# Altium footprint library 通用接插件.PcbLib: 40 footprints (part 1 of 3)
Each footprint in its own frame and in the unit in brackets; x right, y up, seen from the top. Pads: shape width x height; smd on the part's side, far side on the other; paste and mask are expansions set on the pad; w line width, h text height; cw(c..) or ccw(c..) is an arc to the next point about the centre after c.
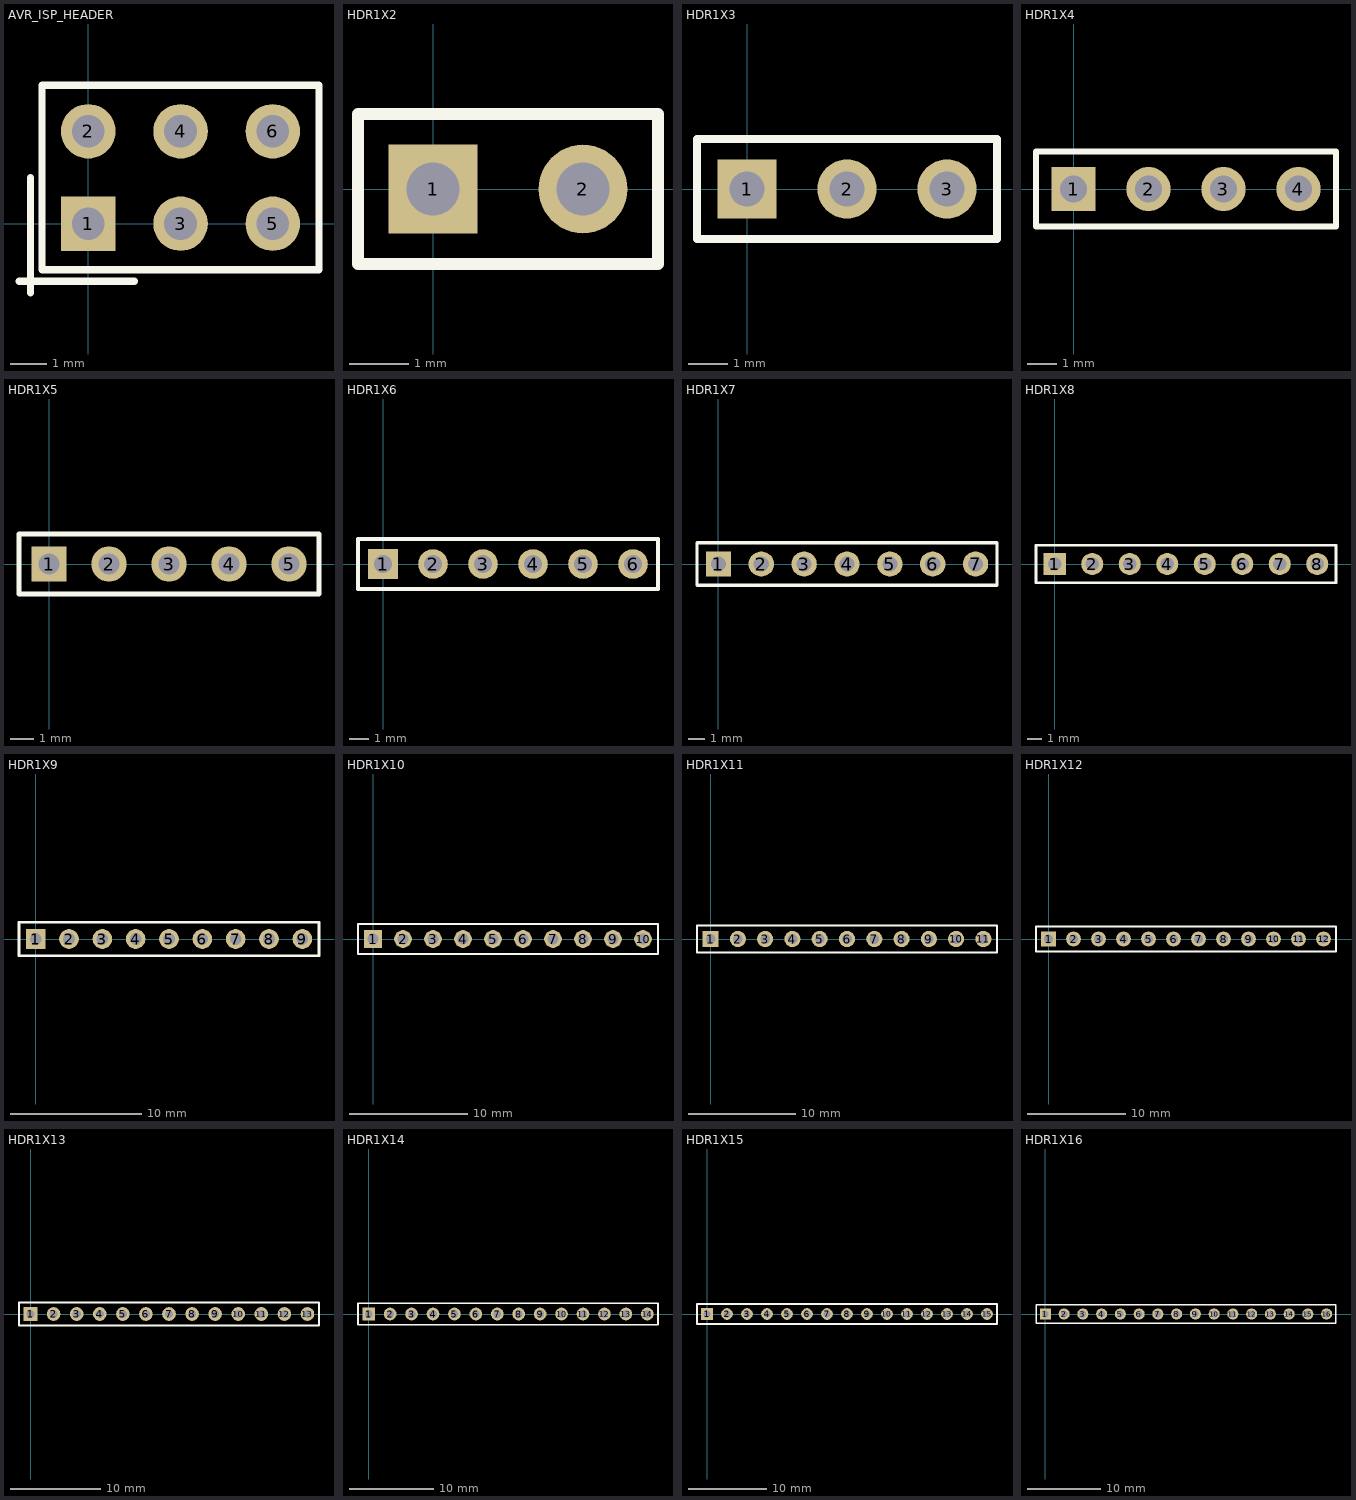
[diagram p0: the footprints below, top view; thin cyan lines are the x and y axes]

## AVR_ISP_HEADER [mm]
pads (6):
  rect 1.5x1.5 hole 0.9: 1(0,0)
  round 1.5 hole 0.9: 2(0,2.54) 3(2.54,0) 4(2.54,2.54) 5(5.08,0) 6(5.08,2.54)
Top Overlay:
  lines w0.2: 1.482,-1.27 6.35,-1.27 ; 6.35,-1.27 -1.27,-1.27 -1.27,3.81 6.35,3.81 6.35,-1.27
  lines w0.203: -1.905,-1.587 1.27,-1.587 ; -1.587,-1.905 -1.587,1.27
3D body: height 7.58, standoff -2.94, extent -1.27,1.27 1.27,3.81
3D body: height 7.58, standoff -2.94, extent 1.27,1.27 3.81,3.81
3D body: height 7.58, standoff -2.94, extent 3.81,1.27 6.35,3.81
3D body: height 7.58, standoff -2.94, extent 3.81,-1.27 6.35,1.27
3D body: height 7.58, standoff -2.94, extent 1.27,-1.27 3.81,1.27
3D body: height 7.58, standoff -2.94, extent -1.27,-1.27 1.27,1.27

## HDR1X2 [mm] "Connector; Header; 2 Position"
pads (2):
  rect 1.5x1.5 hole 0.9: 1(0,0)
  round 1.5 hole 0.9: 2(2.54,0)
Top Overlay:
  lines w0.2: -1.27,-1.27 3.81,-1.27 3.81,1.27 -1.27,1.27 -1.27,-1.27
3D body: height 7.58, standoff -2.94, extent -1.27,-1.27 1.27,1.27
3D body: height 7.58, standoff -2.94, extent 1.27,-1.27 3.81,1.27

## HDR1X3 [mm] "Connector; Header; 3 Position"
pads (3):
  rect 1.5x1.5 hole 0.9: 1(0,0)
  round 1.5 hole 0.9: 2(2.54,0) 3(5.08,0)
Top Overlay:
  lines w0.2: -1.27,-1.27 -1.27,1.27 6.35,1.27 6.35,-1.27 -1.27,-1.27
3D body: height 7.58, standoff -2.94, extent -1.27,-1.27 1.27,1.27
3D body: height 7.58, standoff -2.94, extent 1.27,-1.27 3.81,1.27
3D body: height 7.58, standoff -2.94, extent 3.81,-1.27 6.35,1.27

## HDR1X4 [mm] "Connector; Header; 4 Position"
pads (4):
  rect 1.5x1.5 hole 0.9: 1(0,0)
  round 1.5 hole 0.9: 2(2.54,0) 3(5.08,0) 4(7.62,0)
Top Overlay:
  lines w0.2: -1.27,-1.27 -1.27,1.27 8.89,1.27 8.89,-1.27 -1.27,-1.27
3D body: height 7.58, standoff -2.94, extent -1.27,-1.27 1.27,1.27
3D body: height 7.58, standoff -2.94, extent 1.27,-1.27 3.81,1.27
3D body: height 7.58, standoff -2.94, extent 3.81,-1.27 6.35,1.27
3D body: height 7.58, standoff -2.94, extent 6.35,-1.27 8.89,1.27

## HDR1X5 [mm] "Connector; Header; 5 Position"
pads (5):
  rect 1.5x1.5 hole 0.9: 1(0,0)
  round 1.5 hole 0.9: 2(2.54,0) 3(5.08,0) 4(7.62,0) 5(10.16,0)
Top Overlay:
  lines w0.2: -1.27,-1.27 -1.27,1.27 11.43,1.27 11.43,-1.27 -1.27,-1.27
3D body: height 7.58, standoff -2.94, extent -1.27,-1.27 1.27,1.27
3D body: height 7.58, standoff -2.94, extent 1.27,-1.27 3.81,1.27
3D body: height 7.58, standoff -2.94, extent 3.81,-1.27 6.35,1.27
3D body: height 7.58, standoff -2.94, extent 6.35,-1.27 8.89,1.27
3D body: height 7.58, standoff -2.94, extent 8.89,-1.27 11.43,1.27

## HDR1X6 [mm] "Connector; Header; 6 Position"
pads (6):
  rect 1.5x1.5 hole 0.9: 1(0,0)
  round 1.5 hole 0.9: 2(2.54,0) 3(5.08,0) 4(7.62,0) 5(10.16,0) 6(12.7,0)
Top Overlay:
  lines w0.2: -1.27,-1.27 13.97,-1.27 13.97,1.27 -1.27,1.27 -1.27,-1.27
3D body: height 7.58, standoff -2.94, extent -1.27,-1.27 1.27,1.27
3D body: height 7.58, standoff -2.94, extent 1.27,-1.27 3.81,1.27
3D body: height 7.58, standoff -2.94, extent 3.81,-1.27 6.35,1.27
3D body: height 7.58, standoff -2.94, extent 6.35,-1.27 8.89,1.27
3D body: height 7.58, standoff -2.94, extent 8.89,-1.27 11.43,1.27
3D body: height 7.58, standoff -2.94, extent 11.43,-1.27 13.97,1.27

## HDR1X7 [mm] "Connector; Header; 7 Position"
pads (7):
  rect 1.5x1.5 hole 0.9: 1(0,0)
  round 1.5 hole 0.9: 2(2.54,0) 3(5.08,0) 4(7.62,0) 5(10.16,0) 6(12.7,0) 7(15.24,0)
Top Overlay:
  lines w0.2: -1.27,-1.27 16.51,-1.27 16.51,1.27 -1.27,1.27 -1.27,-1.27
3D body: height 7.58, standoff -2.94, extent -1.27,-1.27 1.27,1.27
3D body: height 7.58, standoff -2.94, extent 1.27,-1.27 3.81,1.27
3D body: height 7.58, standoff -2.94, extent 3.81,-1.27 6.35,1.27
3D body: height 7.58, standoff -2.94, extent 6.35,-1.27 8.89,1.27
3D body: height 7.58, standoff -2.94, extent 8.89,-1.27 11.43,1.27
3D body: height 7.58, standoff -2.94, extent 11.43,-1.27 13.97,1.27
3D body: height 7.58, standoff -2.94, extent 13.97,-1.27 16.51,1.27

## HDR1X8 [mm] "Connector; Header; 8 Position"
pads (8):
  rect 1.5x1.5 hole 0.9: 1(0,0)
  round 1.5 hole 0.9: 2(2.54,0) 3(5.08,0) 4(7.62,0) 5(10.16,0) 6(12.7,0) 7(15.24,0) 8(17.78,0)
Top Overlay:
  lines w0.2: -1.27,-1.27 19.05,-1.27 19.05,1.27 -1.27,1.27 -1.27,-1.27
3D body: height 7.58, standoff -2.94, extent -1.27,-1.27 1.27,1.27
3D body: height 7.58, standoff -2.94, extent 1.27,-1.27 3.81,1.27
3D body: height 7.58, standoff -2.94, extent 3.81,-1.27 6.35,1.27
3D body: height 7.58, standoff -2.94, extent 6.35,-1.27 8.89,1.27
3D body: height 7.58, standoff -2.94, extent 8.89,-1.27 11.43,1.27
3D body: height 7.58, standoff -2.94, extent 11.43,-1.27 13.97,1.27
3D body: height 7.58, standoff -2.94, extent 13.97,-1.27 16.51,1.27
3D body: height 7.58, standoff -2.94, extent 16.51,-1.27 19.05,1.27

## HDR1X9 [mm] "Connector; Header; 9 Position"
pads (9):
  rect 1.5x1.5 hole 0.9: 1(0,0)
  round 1.5 hole 0.9: 2(2.54,0) 3(5.08,0) 4(7.62,0) 5(10.16,0) 6(12.7,0) 7(15.24,0) 8(17.78,0) 9(20.32,0)
Top Overlay:
  lines w0.2: -1.27,-1.27 21.59,-1.27 21.59,1.27 -1.27,1.27 -1.27,-1.27
3D body: height 7.58, standoff -2.94, extent 11.43,-1.27 13.97,1.27
3D body: height 7.58, standoff -2.94, extent 13.97,-1.27 16.51,1.27
3D body: height 7.58, standoff -2.94, extent 16.51,-1.27 19.05,1.27
3D body: height 7.58, standoff -2.94, extent 19.05,-1.27 21.59,1.27
3D body: height 7.58, standoff -2.94, extent 8.89,-1.27 11.43,1.27
3D body: height 7.58, standoff -2.94, extent 6.35,-1.27 8.89,1.27
3D body: height 7.58, standoff -2.94, extent 3.81,-1.27 6.35,1.27
3D body: height 7.58, standoff -2.94, extent 1.27,-1.27 3.81,1.27
3D body: height 7.58, standoff -2.94, extent -1.27,-1.27 1.27,1.27

## HDR1X10 [mm] "Connector; Header; 10 Position"
pads (10):
  rect 1.5x1.5 hole 0.9: 1(0,0)
  round 1.5 hole 0.9: 2(2.54,0) 3(5.08,0) 4(7.62,0) 5(10.16,0) 6(12.7,0) 7(15.24,0) 8(17.78,0) 9(20.32,0) 10(22.86,0)
Top Overlay:
  lines w0.2: -1.27,-1.27 24.13,-1.27 24.13,1.27 0.635,1.27 -1.27,1.27 -1.27,-1.27
3D body: height 7.58, standoff -2.94, extent 21.59,-1.27 24.13,1.27
3D body: height 7.58, standoff -2.94, extent 19.05,-1.27 21.59,1.27
3D body: height 7.58, standoff -2.94, extent 13.97,-1.27 16.51,1.27
3D body: height 7.58, standoff -2.94, extent 16.51,-1.27 19.05,1.27
3D body: height 7.58, standoff -2.94, extent 8.89,-1.27 11.43,1.27
3D body: height 7.58, standoff -2.94, extent 11.43,-1.27 13.97,1.27
3D body: height 7.58, standoff -2.94, extent 3.81,-1.27 6.35,1.27
3D body: height 7.58, standoff -2.94, extent 6.35,-1.27 8.89,1.27
3D body: height 7.58, standoff -2.94, extent 1.27,-1.27 3.81,1.27
3D body: height 7.58, standoff -2.94, extent -1.27,-1.27 1.27,1.27

## HDR1X11 [mm] "Connector; Header; 11 Position"
pads (11):
  rect 1.5x1.5 hole 0.9: 1(0,0)
  round 1.5 hole 0.9: 2(2.54,0) 3(5.08,0) 4(7.62,0) 5(10.16,0) 6(12.7,0) 7(15.24,0) 8(17.78,0) 9(20.32,0) 10(22.86,0) 11(25.4,0)
Top Overlay:
  lines w0.2: -1.27,-1.27 26.67,-1.27 26.67,1.27 0.635,1.27 -1.27,1.27 -1.27,-1.27
3D body: height 7.58, standoff -2.94, extent 24.13,-1.27 26.67,1.27
3D body: height 7.58, standoff -2.94, extent 21.59,-1.27 24.13,1.27
3D body: height 7.58, standoff -2.94, extent 19.05,-1.27 21.59,1.27
3D body: height 7.58, standoff -2.94, extent 16.51,-1.27 19.05,1.27
3D body: height 7.58, standoff -2.94, extent 13.97,-1.27 16.51,1.27
3D body: height 7.58, standoff -2.94, extent 11.43,-1.27 13.97,1.27
3D body: height 7.58, standoff -2.94, extent 8.89,-1.27 11.43,1.27
3D body: height 7.58, standoff -2.94, extent 6.35,-1.27 8.89,1.27
3D body: height 7.58, standoff -2.94, extent 3.81,-1.27 6.35,1.27
3D body: height 7.58, standoff -2.94, extent 1.27,-1.27 3.81,1.27
3D body: height 7.58, standoff -2.94, extent -1.27,-1.27 1.27,1.27

## HDR1X12 [mm] "Connector; Header; 12 Position"
pads (12):
  rect 1.5x1.5 hole 0.9: 1(0,0)
  round 1.5 hole 0.9: 2(2.54,0) 3(5.08,0) 4(7.62,0) 5(10.16,0) 6(12.7,0) 7(15.24,0) 8(17.78,0) 9(20.32,0) 10(22.86,0) 11(25.4,0) 12(27.94,0)
Top Overlay:
  lines w0.2: -1.27,-1.27 -1.27,1.27 0.635,1.27 29.21,1.27 29.21,-1.27 -1.27,-1.27
3D body: height 7.58, standoff -2.94, extent 26.67,-1.27 29.21,1.27
3D body: height 7.58, standoff -2.94, extent 24.13,-1.27 26.67,1.27
3D body: height 7.58, standoff -2.94, extent 21.59,-1.27 24.13,1.27
3D body: height 7.58, standoff -2.94, extent 19.05,-1.27 21.59,1.27
3D body: height 7.58, standoff -2.94, extent 16.51,-1.27 19.05,1.27
3D body: height 7.58, standoff -2.94, extent 13.97,-1.27 16.51,1.27
3D body: height 7.58, standoff -2.94, extent 11.43,-1.27 13.97,1.27
3D body: height 7.58, standoff -2.94, extent 8.89,-1.27 11.43,1.27
3D body: height 7.58, standoff -2.94, extent 6.35,-1.27 8.89,1.27
3D body: height 7.58, standoff -2.94, extent 3.81,-1.27 6.35,1.27
3D body: height 7.58, standoff -2.94, extent 1.27,-1.27 3.81,1.27
3D body: height 7.58, standoff -2.94, extent -1.27,-1.27 1.27,1.27

## HDR1X13 [mm] "Connector; Header; 13 Position"
pads (13):
  rect 1.5x1.5 hole 0.9: 1(0,0)
  round 1.5 hole 0.9: 2(2.54,0) 3(5.08,0) 4(7.62,0) 5(10.16,0) 6(12.7,0) 7(15.24,0) 8(17.78,0) 9(20.32,0) 10(22.86,0) 11(25.4,0) 12(27.94,0) 13(30.48,0)
Top Overlay:
  lines w0.2: -1.27,-1.27 -1.27,1.27 0.635,1.27 31.75,1.27 31.75,-1.27 -1.27,-1.27
3D body: height 7.58, standoff -2.94, extent 29.21,-1.27 31.75,1.27
3D body: height 7.58, standoff -2.94, extent 26.67,-1.27 29.21,1.27
3D body: height 7.58, standoff -2.94, extent 24.13,-1.27 26.67,1.27
3D body: height 7.58, standoff -2.94, extent 21.59,-1.27 24.13,1.27
3D body: height 7.58, standoff -2.94, extent 19.05,-1.27 21.59,1.27
3D body: height 7.58, standoff -2.94, extent 16.51,-1.27 19.05,1.27
3D body: height 7.58, standoff -2.94, extent 13.97,-1.27 16.51,1.27
3D body: height 7.58, standoff -2.94, extent 11.43,-1.27 13.97,1.27
3D body: height 7.58, standoff -2.94, extent 8.89,-1.27 11.43,1.27
3D body: height 7.58, standoff -2.94, extent 6.35,-1.27 8.89,1.27
3D body: height 7.58, standoff -2.94, extent 3.81,-1.27 6.35,1.27
3D body: height 7.58, standoff -2.94, extent 1.27,-1.27 3.81,1.27
3D body: height 7.58, standoff -2.94, extent -1.27,-1.27 1.27,1.27

## HDR1X14 [mm] "Connector; Header; 14 Position"
pads (14):
  rect 1.5x1.5 hole 0.9: 1(0,0)
  round 1.5 hole 0.9: 2(2.54,0) 3(5.08,0) 4(7.62,0) 5(10.16,0) 6(12.7,0) 7(15.24,0) 8(17.78,0) 9(20.32,0) 10(22.86,0) 11(25.4,0) 12(27.94,0) 13(30.48,0) 14(33.02,0)
Top Overlay:
  lines w0.2: -1.27,-1.27 34.29,-1.27 34.29,1.27 0.635,1.27 -1.27,1.27 -1.27,-1.27
3D body: height 7.58, standoff -2.94, extent 29.21,-1.27 31.75,1.27
3D body: height 7.58, standoff -2.94, extent 31.75,-1.27 34.29,1.27
3D body: height 7.58, standoff -2.94, extent 19.05,-1.27 21.59,1.27
3D body: height 7.58, standoff -2.94, extent 21.59,-1.27 24.13,1.27
3D body: height 7.58, standoff -2.94, extent 24.13,-1.27 26.67,1.27
3D body: height 7.58, standoff -2.94, extent 26.67,-1.27 29.21,1.27
3D body: height 7.58, standoff -2.94, extent 8.89,-1.27 11.43,1.27
3D body: height 7.58, standoff -2.94, extent 11.43,-1.27 13.97,1.27
3D body: height 7.58, standoff -2.94, extent 13.97,-1.27 16.51,1.27
3D body: height 7.58, standoff -2.94, extent 16.51,-1.27 19.05,1.27
3D body: height 7.58, standoff -2.94, extent 6.35,-1.27 8.89,1.27
3D body: height 7.58, standoff -2.94, extent 3.81,-1.27 6.35,1.27
3D body: height 7.58, standoff -2.94, extent 1.27,-1.27 3.81,1.27
3D body: height 7.58, standoff -2.94, extent -1.27,-1.27 1.27,1.27

## HDR1X15 [mm] "Connector; Header; 15 Position"
pads (15):
  rect 1.5x1.5 hole 0.9: 1(0,0)
  round 1.5 hole 0.9: 2(2.54,0) 3(5.08,0) 4(7.62,0) 5(10.16,0) 6(12.7,0) 7(15.24,0) 8(17.78,0) 9(20.32,0) 10(22.86,0) 11(25.4,0) 12(27.94,0) 13(30.48,0) 14(33.02,0) 15(35.56,0)
Top Overlay:
  lines w0.2: -1.27,-1.27 -1.27,1.27 0.635,1.27 36.83,1.27 36.83,-1.27 -1.27,-1.27
3D body: height 7.58, standoff -2.94, extent 29.21,-1.27 31.75,1.27
3D body: height 7.58, standoff -2.94, extent 31.75,-1.27 34.29,1.27
3D body: height 7.58, standoff -2.94, extent 34.29,-1.27 36.83,1.27
3D body: height 7.58, standoff -2.94, extent 19.05,-1.27 21.59,1.27
3D body: height 7.58, standoff -2.94, extent 21.59,-1.27 24.13,1.27
3D body: height 7.58, standoff -2.94, extent 24.13,-1.27 26.67,1.27
3D body: height 7.58, standoff -2.94, extent 26.67,-1.27 29.21,1.27
3D body: height 7.58, standoff -2.94, extent 8.89,-1.27 11.43,1.27
3D body: height 7.58, standoff -2.94, extent 11.43,-1.27 13.97,1.27
3D body: height 7.58, standoff -2.94, extent 13.97,-1.27 16.51,1.27
3D body: height 7.58, standoff -2.94, extent 16.51,-1.27 19.05,1.27
3D body: height 7.58, standoff -2.94, extent -1.27,-1.27 1.27,1.27
3D body: height 7.58, standoff -2.94, extent 1.27,-1.27 3.81,1.27
3D body: height 7.58, standoff -2.94, extent 3.81,-1.27 6.35,1.27
3D body: height 7.58, standoff -2.94, extent 6.35,-1.27 8.89,1.27

## HDR1X16 [mm] "Connector; Header; 16 Position"
pads (16):
  rect 1.5x1.5 hole 0.9: 1(0,0)
  round 1.5 hole 0.9: 2(2.54,0) 3(5.08,0) 4(7.62,0) 5(10.16,0) 6(12.7,0) 7(15.24,0) 8(17.78,0) 9(20.32,0) 10(22.86,0) 11(25.4,0) 12(27.94,0) 13(30.48,0) 14(33.02,0) 15(35.56,0) 16(38.1,0)
Top Overlay:
  lines w0.2: -1.27,-1.27 -1.27,1.27 0.635,1.27 39.37,1.27 39.37,-1.27 -1.27,-1.27
3D body: height 7.58, standoff -2.94, extent 29.21,-1.27 31.75,1.27
3D body: height 7.58, standoff -2.94, extent 31.75,-1.27 34.29,1.27
3D body: height 7.58, standoff -2.94, extent 34.29,-1.27 36.83,1.27
3D body: height 7.58, standoff -2.94, extent 36.83,-1.27 39.37,1.27
3D body: height 7.58, standoff -2.94, extent 19.05,-1.27 21.59,1.27
3D body: height 7.58, standoff -2.94, extent 21.59,-1.27 24.13,1.27
3D body: height 7.58, standoff -2.94, extent 24.13,-1.27 26.67,1.27
3D body: height 7.58, standoff -2.94, extent 26.67,-1.27 29.21,1.27
3D body: height 7.58, standoff -2.94, extent 8.89,-1.27 11.43,1.27
3D body: height 7.58, standoff -2.94, extent 11.43,-1.27 13.97,1.27
3D body: height 7.58, standoff -2.94, extent 13.97,-1.27 16.51,1.27
3D body: height 7.58, standoff -2.94, extent 16.51,-1.27 19.05,1.27
3D body: height 7.58, standoff -2.94, extent -1.27,-1.27 1.27,1.27
3D body: height 7.58, standoff -2.94, extent 1.27,-1.27 3.81,1.27
3D body: height 7.58, standoff -2.94, extent 3.81,-1.27 6.35,1.27
3D body: height 7.58, standoff -2.94, extent 6.35,-1.27 8.89,1.27